# EAGLE library part 691701520007B (library WR-TBL Pluggable Connector)
WR-TBL Serie 7015B - 5.08 mm Close Vertical PCB Header THR Type w. Flanges KIND PROPERTIES Pitch 5.08 mm MATERIAL PROPERTIES Insulator Material LCP Insulator Flammability Rating UL94 V-0 Contact Material Brass Contact Plating Tin GENERAL INFORMATION Operating Temperature -40 up to +105 °C Compliance RoHS ELECTRICAL PROPERTIES IR cULus 10 A Working Voltage [cULus] 300 V (AC) Withstanding Voltage [cULus] 4000 V (AC) Contact Resistance [cULus] 20 mΩ CERTIFICATION cULus Approval E315414 <https://www.we-online.com/catalog/media/o33334v209%20Family_WR-TBL_6917015200xxB.jpg> Details see: https://www.we-online.com/catalog/en/TBL_5_08_THR_7015B_CLOSE_VERTICAL_PCB_HEADER_W_FLANGES_6917015200XXB/ Updated by Ella Wu 2019-12-27 2022(C) Wurth Elektronik
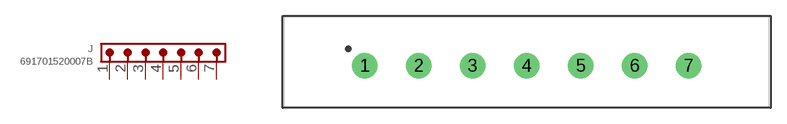
[diagram p398: symbol with the pads of 691701520007B; footprint 691701520007B]

Designator prefix J

## 691701520007B (DATASHEET-URL: https://www.we-online.com/redexpert/spec/691701520007B?ae; IR-UL: 10A; MOUNT: THT; PART-NUMBER: 691701520007B; PINS: 7; PITCH: 5.08mm; TYPE: Vertical; VALUE: 691701520007B; WORKING-VOLTAGE-UL: 300V (AC))  [691701520007B]
1  1  pas
2  2  pas
3  3  pas
4  4  pas
5  5  pas
6  6  pas
7  7  pas

## Footprint 691701520007B (pad centres in mm)
WR-TBL Serie 7015B - 5.08 mm Close Vertical PCB Header THR Type w. Flanges Max Height = 12mm , Pitch 5.08mm , 7pins
drill 1.6: 1 -15.24,0; 2 -10.16,0; 3 -5.08,0; 4 0,0; 5 5.08,0; 6 10.16,0; 7 15.24,0